# Altium footprint library KF2EDG-3.81mm.PcbLib: 5 footprints
Each footprint in its own frame and in the unit in brackets; x right, y up, seen from the top. Pads: shape width x height; smd on the part's side, far side on the other; paste and mask are expansions set on the pad; w line width, h text height; cw(c..) or ccw(c..) is an arc to the next point about the centre after c.
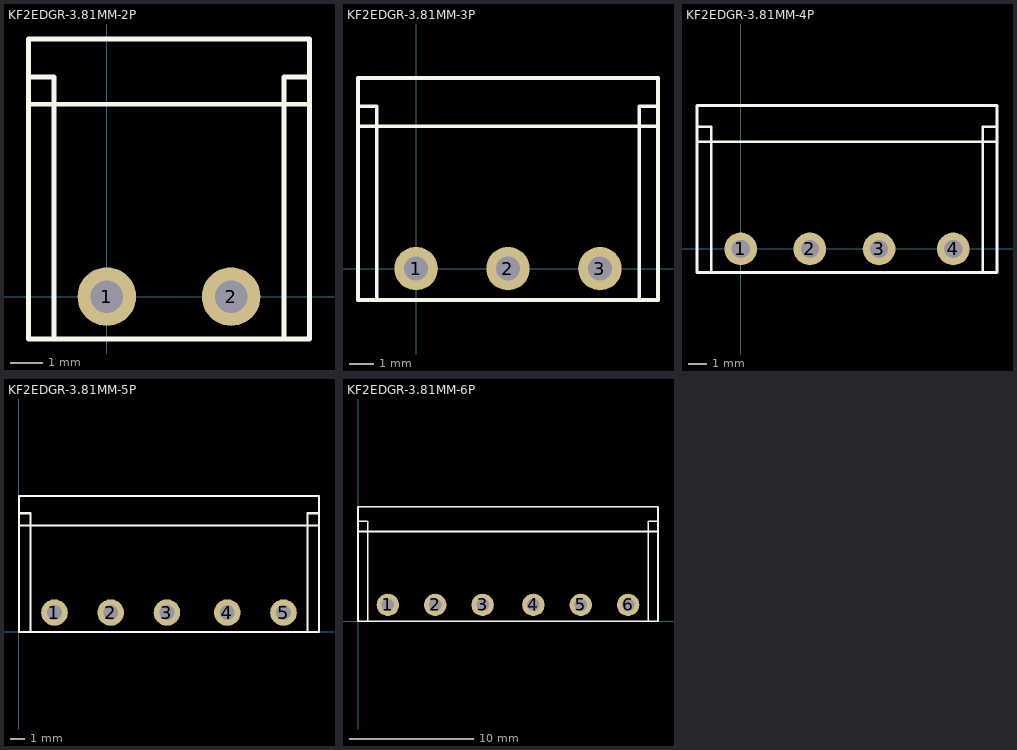
[diagram p0: the footprints below, top view; thin cyan lines are the x and y axes]

## KF2EDGR-3.81MM-2P [mm]
pads (2):
  round 1.8 hole 1: 1(0,0) 2(3.81,0)
Top Overlay:
  lines w0.15: -2.405,5.9 6.215,5.9 ; -2.405,6.731 -1.626,6.731 -1.626,-1.3 ; 5.436,-1.3 5.436,6.731 6.215,6.731 ; -2.405,-1.3 6.215,-1.3 6.215,7.9 -2.405,7.9 -2.405,-1.3
3D body "2p.stp": height 7.1, standoff -3.6, extent -3.73,-1.333 7.54,7.867

## KF2EDGR-3.81MM-3P [mm]
pads (3):
  round 1.8 hole 1: 1(0,0) 2(3.81,0) 3(7.62,0)
Top Overlay:
  lines w0.15: -2.405,5.9 10.025,5.9 ; -2.405,6.731 -1.626,6.731 -1.626,-1.3 ; 9.246,-1.3 9.246,6.731 10.025,6.731 ; -2.405,-1.3 10.025,-1.3 10.025,7.9 -2.405,7.9 -2.405,-1.3
3D body "3p.stp": height 7.1, standoff -3.6, extent -3.752,-1.301 11.328,7.899

## KF2EDGR-3.81MM-4P [mm]
pads (4):
  round 1.8 hole 1: 1(0,0) 2(3.81,0) 3(7.62,0) 4(11.709,0)
Top Overlay:
  lines w0.15: -2.405,5.9 14.114,5.9 ; -2.405,6.731 -1.626,6.731 -1.626,-1.3 ; 13.335,-1.3 13.335,6.731 14.114,6.731 ; -2.405,-1.3 14.114,-1.3 14.114,7.9 -2.405,7.9 -2.405,-1.3
3D body "4p.stp": height 7.1, standoff -3.6, extent -3.578,-1.326 15.312,7.874

## KF2EDGR-3.81MM-5P [mm]
pads (5):
  round 1.8 hole 1: 1(2.413,1.295) 2(6.223,1.295) 3(10.033,1.295) 4(14.122,1.295) 5(17.932,1.295)
Top Overlay:
  lines w0.15: 0.008,7.195 20.337,7.195 ; 0.008,8.026 0.787,8.026 0.787,-0.005 ; 19.558,-0.005 19.558,8.026 20.337,8.026 ; 19.787,9.195 0.008,9.195 0.008,-0.025 20.337,-0.025 20.337,9.195 19.787,9.195 ; 19.787,9.195 19.787,9.195
3D body "5p.stp": height 7.1, standoff -3.6, extent -1.215,0.046 21.485,9.246

## KF2EDGR-3.81MM-6P [mm]
pads (6):
  round 1.8 hole 1: 1(2.405,1.321) 2(6.215,1.321) 3(10.025,1.321) 4(14.114,1.321) 5(17.924,1.321) 6(21.734,1.321)
Top Overlay:
  lines w0.15: 0,7.221 24.139,7.221 ; 0,8.052 0.779,8.052 0.779,0.021 ; 23.36,0.021 23.36,8.052 24.139,8.052 ; 23.589,9.221 24.139,9.221 24.139,0 0,0 0,9.22 23.589,9.22 ; 23.589,9.22 23.589,9.221
3D body "6p.stp": height 7.1, standoff -3.6, extent -1.19,-0.031 25.32,9.169